# Altium integrated library TB005_-762-05BE.IntLib: 1 symbol
Pins are listed as number, name and electrical type; pins without a type are passive.

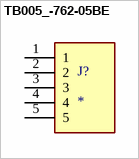
[diagram p0: symbol TB005_-762-05BE]

## TB005_-762-05BE
designator J?
2~24 Poles, Screw Type, Horizontal, 7.62 Pitch, 26~10 (AWG), Terminal Block Connector; MF: CUI Devices; MP: TB005 -762-05BE; SnapEDA_Link: https://www.snapeda.com/parts/TB005%20-762-05BE/CUI+Devices/view-part/?ref=snap; Package: None; Value: *; CUI_purchase_URL: https://www.cuidevices.com/product/interconnect/connectors/terminal-blocks/tb005-762-series?utm_source=snapeda.com&utm_medium=referral&utm_campaign=snapedaBOM; Check_prices: https://www.snapeda.com/parts/TB005%20-762-05BE/CUI+Devices/view-part/?ref=eda
footprint CUI_TB005 -762-05BE
pins: 1, 2, 3, 4, 5